# Altium footprint library C DIP.PcbLib: 40 footprints (part 2 of 3)
Each footprint in its own frame and in the unit in brackets; x right, y up, seen from the top. Pads: shape width x height; smd on the part's side, far side on the other; paste and mask are expansions set on the pad; w line width, h text height; cw(c..) or ccw(c..) is an arc to the next point about the centre after c.
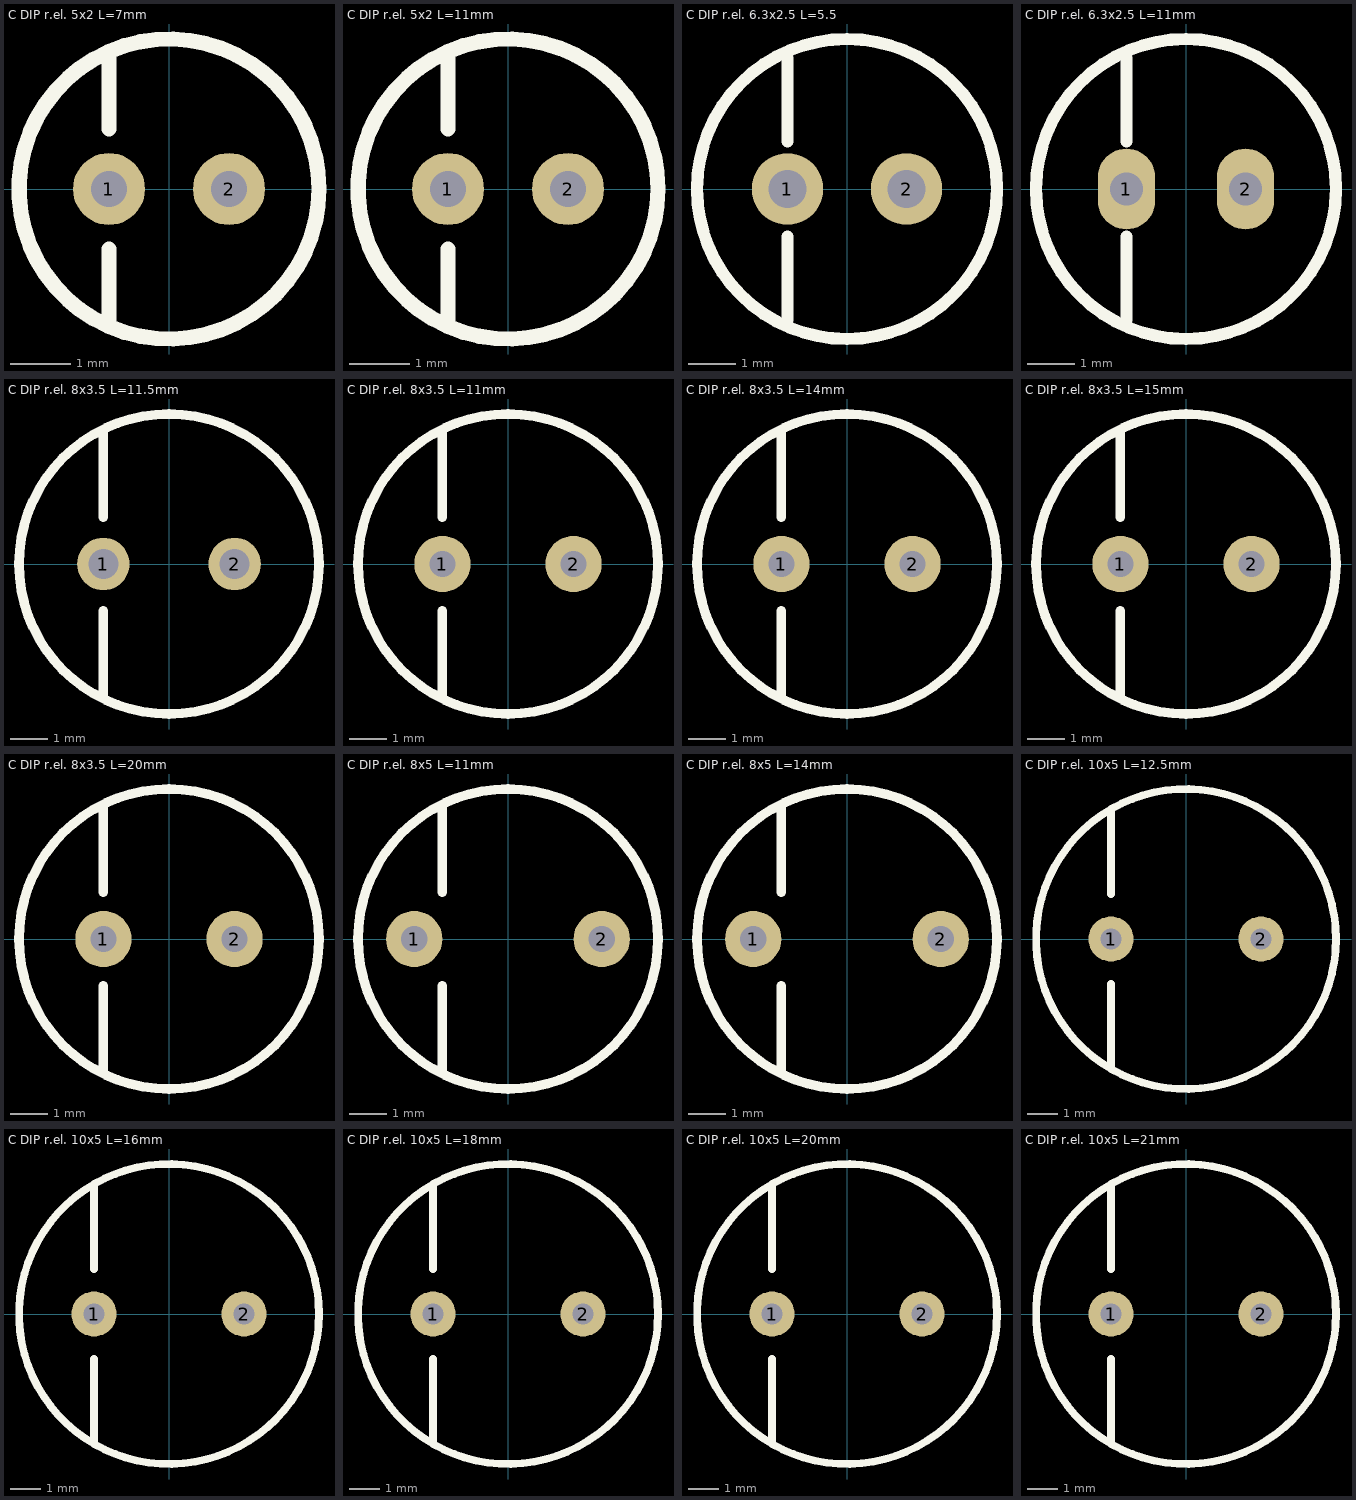
[diagram p1: the footprints below, top view; thin cyan lines are the x and y axes]

## C DIP r.el. 5x2 L=7mm [mm] "C DIP r.el. 5x2 L=7mm"
height 7
pads (2):
  round 1.2 hole 0.6: 1(-1,0) 2(1,0)
Top Overlay:
  circle w0.254: c0,0 r2.5
  lines w0.254: -1,-2.25 -1,-1 ; -1,1 -1,2.25
3D body: height 7, standoff 0, extent -2.5,-2.5 2.48,2.49

## C DIP r.el. 5x2 L=11mm [mm] "C DIP r.el. 5x2 L=11mm"
height 11
pads (2):
  round 1.2 hole 0.6: 1(-1,0) 2(1,0)
Top Overlay:
  circle w0.254: c0,0 r2.5
  lines w0.254: -1,-2.25 -1,-1 ; -1,1 -1,2.25
3D body: height 11, standoff 0, extent -2.5,-2.5 2.48,2.49

## C DIP r.el. 6.3x2.5 L=5.5 [mm] "C DIP r.el. 6.3x2.5 L=5.5"
height 11
pads (2):
  round 1.5 hole 0.8: 1(-1.25,0) 2(1.25,0)
Top Overlay:
  circle w0.254: c0,0 r3.15
  lines w0.254: -1.25,-2.75 -1.25,-1 ; -1.25,1 -1.25,2.75

## C DIP r.el. 6.3x2.5 L=11mm [mm] "C DIP r.el. 6.3x2.5 L=11mm"
height 11
pads (2):
  oval 1.2x1.7 hole 0.7: 1(-1.25,0) 2(1.25,0)
Top Overlay:
  circle w0.254: c0,0 r3.15
  lines w0.254: -1.25,-2.75 -1.25,-1 ; -1.25,1 -1.25,2.75
3D body: height 11, standoff 0, extent -3.1,-3.1 3.175,3.188

## C DIP r.el. 8x3.5 L=11.5mm [mm] "C DIP r.el. 8x3.5 L=11.5mm"
height 11.5
pads (2):
  round 1.4 hole 0.8: 1(-1.75,0) 2(1.75,0)
Top Overlay:
  circle w0.254: c0,0 r4
  lines w0.254: -1.75,-3.5 -1.75,-1.25 ; -1.75,1.25 -1.75,3.5
3D body: height 11.5, standoff -1, extent -4,-4 4,4

## C DIP r.el. 8x3.5 L=11mm [mm] "C DIP r.el. 8x3.5 L=11mm"
height 11
pads (2):
  round 1.5 hole 0.7: 1(-1.75,0) 2(1.75,0)
Top Overlay:
  circle w0.254: c0,0 r4
  lines w0.254: -1.75,-3.5 -1.75,-1.25 ; -1.75,1.25 -1.75,3.5
3D body: height 11, standoff 0, extent -4,-4 3.968,3.984

## C DIP r.el. 8x3.5 L=14mm [mm] "C DIP r.el. 8x3.5 L=14mm"
height 14
pads (2):
  round 1.5 hole 0.7: 1(-1.75,0) 2(1.75,0)
Top Overlay:
  circle w0.254: c0,0 r4
  lines w0.254: -1.75,-3.5 -1.75,-1.25 ; -1.75,1.25 -1.75,3.5
3D body: height 14, standoff 0, extent -4,-4 3.968,3.984

## C DIP r.el. 8x3.5 L=15mm [mm] "C DIP r.el. 8x3.5 L=15mm"
height 15
pads (2):
  round 1.5 hole 0.7: 1(-1.75,0) 2(1.75,0)
Top Overlay:
  circle w0.254: c0,0 r4
  lines w0.254: -1.75,-3.5 -1.75,-1.25 ; -1.75,1.25 -1.75,3.5
3D body: height 15, standoff 0, extent -4,-4 3.968,3.984

## C DIP r.el. 8x3.5 L=20mm [mm] "C DIP r.el. 8x3.5 L=20mm"
height 20
pads (2):
  round 1.5 hole 0.7: 1(-1.75,0) 2(1.75,0)
Top Overlay:
  circle w0.254: c0,0 r4
  lines w0.254: -1.75,-3.5 -1.75,-1.25 ; -1.75,1.25 -1.75,3.5
3D body: height 20, standoff 0, extent -4,-4 3.968,3.984

## C DIP r.el. 8x5 L=11mm [mm] "C DIP r.el. 8x5 L=11mm"
height 11
pads (2):
  round 1.5 hole 0.7: 1(-2.5,0) 2(2.5,0)
Top Overlay:
  circle w0.254: c0,0 r4
  lines w0.254: -1.75,-3.5 -1.75,-1.25 ; -1.75,1.25 -1.75,3.5
3D body: height 11, standoff 0, extent -4,-4 3.968,3.984

## C DIP r.el. 8x5 L=14mm [mm] "C DIP r.el. 8x5 L=14mm"
height 14
pads (2):
  round 1.5 hole 0.7: 1(-2.5,0) 2(2.5,0)
Top Overlay:
  circle w0.254: c0,0 r4
  lines w0.254: -1.75,-3.5 -1.75,-1.25 ; -1.75,1.25 -1.75,3.5
3D body: height 14, standoff 0, extent -4,-4 3.968,3.984

## C DIP r.el. 10x5 L=12.5mm [mm] "C DIP r.el. 10x5 L=12.5mm"
height 12.5
pads (2):
  round 1.5 hole 0.7: 1(-2.5,0) 2(2.5,0)
Top Overlay:
  circle w0.254: c0,0 r5
  lines w0.254: -2.5,-4.25 -2.5,-1.5 ; -2.5,1.5 -2.5,4.25
3D body: height 12.5, standoff 0, extent -5.04,-5.01 4.961,4.99

## C DIP r.el. 10x5 L=16mm [mm] "C DIP r.el. 10x5 L=16mm"
height 16
pads (2):
  round 1.5 hole 0.7: 1(-2.5,0) 2(2.5,0)
Top Overlay:
  circle w0.254: c0,0 r5
  lines w0.254: -2.5,-4.25 -2.5,-1.5 ; -2.5,1.5 -2.5,4.25
3D body: height 16, standoff 0, extent -5,-5 4.961,4.98

## C DIP r.el. 10x5 L=18mm [mm] "C DIP r.el. 10x5 L=18mm"
height 18
pads (2):
  round 1.5 hole 0.7: 1(-2.5,0) 2(2.5,0)
Top Overlay:
  circle w0.254: c0,0 r5
  lines w0.254: -2.5,-4.25 -2.5,-1.5 ; -2.5,1.5 -2.5,4.25
3D body: height 18, standoff 0, extent -5,-5 4.961,4.98

## C DIP r.el. 10x5 L=20mm [mm] "C DIP r.el. 10x5 L=20mm"
height 20
pads (2):
  round 1.5 hole 0.7: 1(-2.5,0) 2(2.5,0)
Top Overlay:
  circle w0.254: c0,0 r5
  lines w0.254: -2.5,-4.25 -2.5,-1.5 ; -2.5,1.5 -2.5,4.25
3D body: height 20, standoff 0, extent -5,-5 4.961,4.98

## C DIP r.el. 10x5 L=21mm [mm] "C DIP r.el. 10x5 L=21mm"
height 21
pads (2):
  round 1.5 hole 0.7: 1(-2.5,0) 2(2.5,0)
Top Overlay:
  circle w0.254: c0,0 r5
  lines w0.254: -2.5,-4.25 -2.5,-1.5 ; -2.5,1.5 -2.5,4.25
3D body: height 21, standoff 0, extent -5,-5 4.961,4.98